# Altium footprint library MODULE.PcbLib: 11 footprints
Each footprint in its own frame and in the unit in brackets; x right, y up, seen from the top. Pads: shape width x height; smd on the part's side, far side on the other; paste and mask are expansions set on the pad; w line width, h text height; cw(c..) or ccw(c..) is an arc to the next point about the centre after c.
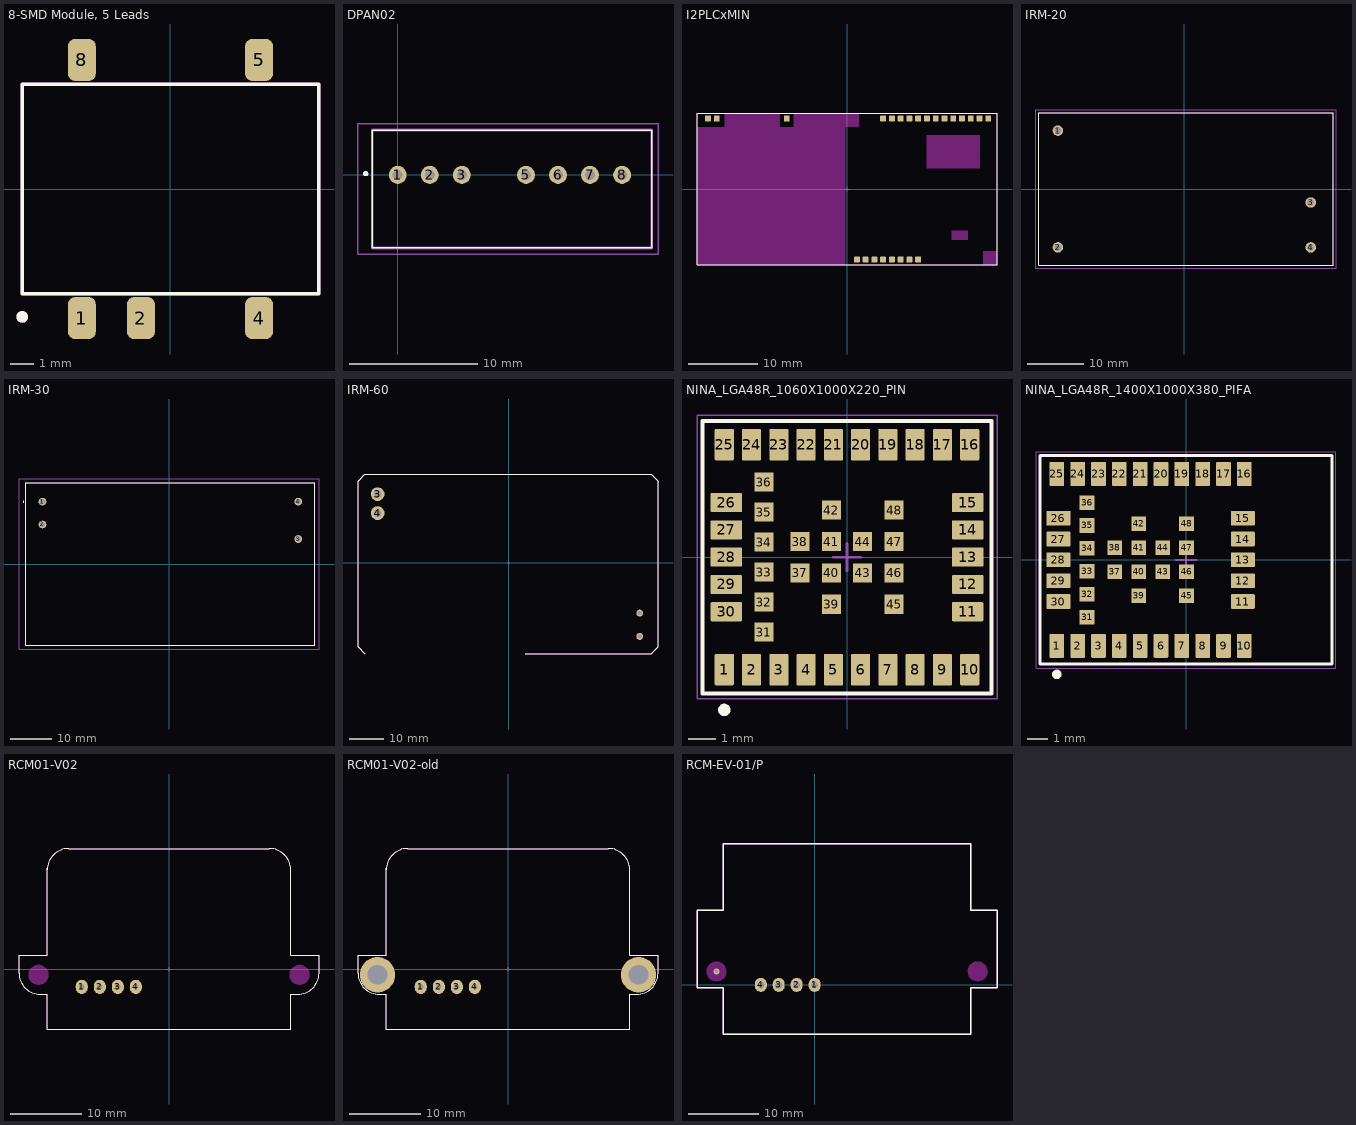
[diagram p0: the footprints below, top view; thin cyan lines are the x and y axes]

## 8-SMD Module, 5 Leads [mm]
pads (5):
  rrect50% 1.2x1.8 smd mask+0.05: 1(-3.81,-5.55) 2(-1.27,-5.55) 4(3.81,-5.55) 5(3.81,5.55) 8(-3.81,5.55)
Top Overlay:
  circle w0.25: c-6.375,-5.5 r0.125
  lines w0.15: -6.375,-4.5 -6.375,4.5 6.375,4.5 6.375,-4.5 -6.375,-4.5
Mechanical 29:
  circle w0.25: c-6.375,-5.5 r0.125
  lines w0.15: -6.375,-4.5 6.375,-4.5 6.375,4.5 -6.375,4.5 -6.375,-4.5
  text "'.Designator'" at -4.841,-0.453 h2
3D body "R1SE-0505.stp": height 7.01, standoff 0, extent -6.375,-5.55 6.375,5.55

## DPAN02 [mm]
pads (7):
  round 1.4 hole 0.78: 1(0,0) 2(2.5,0) 3(5,0) 5(10,0) 6(12.5,0) 7(15,0) 8(17.5,0)
Top Overlay:
  lines w0.1: -2,-5.7 -2,3.5 19.8,3.5 19.8,-5.7 -2,-5.7
  lines w0.2: -2.5,0 cw(c-2.5,0.1) -2.5,0.2 cw(c-2.5,0.1) -2.5,0
Mechanical 13:
  lines w0.2: -2,-5.7 -2,3.5 19.8,3.5 19.8,-5.7 -2,-5.7
Mechanical 15:
  lines w0.1: -3.1,-6.2 -3.1,4 20.3,4 20.3,-6.2 -3.1,-6.2
Mechanical 29:
  lines w0.1: -2,-5.7 -2,3.5 19.8,3.5 19.8,-5.7 -2,-5.7
  lines w0.2: -2.5,0 cw(c-2.5,0.1) -2.5,0.2 cw(c-2.5,0.1) -2.5,0
  text "'.Designator'" at 3.976,-1.73 h2.03
3D body "DPAN02A-15.stp": height 11.1, standoff -5, extent -2,-5.7 19.8,3.5

## I2PLCxMIN [mm]
pads (24):
  rrect25% 0.85x0.85 smd: 1(20.48,10.235) 2(19.21,10.235) 3(17.94,10.235) 4(16.67,10.235) 5(15.4,10.235) 6(14.13,10.235) 7(12.86,10.235) 8(11.59,10.235) 9(10.32,10.235) 10(9.05,10.235) 11(7.78,10.235) 12(6.51,10.235) 13(5.24,10.235) 15(-8.73,10.235) 16(-18.89,10.235) 17(-20.16,10.235) 18(1.43,-10.235) 19(2.7,-10.235) 20(3.97,-10.235) 21(5.24,-10.235) 22(6.51,-10.235) 23(7.78,-10.235) 24(9.05,-10.235) 25(10.32,-10.235)
Top Overlay:
  lines w0.15: -21.75,-11 21.75,-11 21.75,11 -21.75,11 -21.75,-11
Keep-Out Layer:
  rectangle: 19.75,-11 21.75,-9
  rectangle: 15.15,-7.4 17.55,-6
  rectangle: 11.55,3 19.25,7.8
  rectangle: -21.75,-11 -0.25,9
  rectangle: -7.75,9 1.75,11
  rectangle: -17.75,9 -9.75,11
Mechanical 15:
  lines w0.1: -0.3,0 0.3,0 ; 0,-0.3 0,0.3
Mechanical 29:
  lines w0.15: -21.75,-11 -21.75,11 21.75,11 21.75,-11 -21.75,-11
  text "'.Designator'" at -6.143,-0.574 h2.54
3D body: height 6.5, standoff 0, extent -21.75,-11 21.75,11

## IRM-20 [mm]
pads (4):
  round 1.86 hole 1.24: 1(-22.5,10.4) 2(-22.5,-10.4) 3(22.5,-2.4) 4(22.5,-10.4)
Top Overlay:
  lines w0.1: -25.9,-13.6 -25.9,13.6 26.5,13.6 26.5,-13.6 -25.9,-13.6
Mechanical 15:
  lines w0.1: -26.4,-14.1 -26.4,14.1 27,14.1 27,-14.1 -26.4,-14.1
Mechanical 29:
  lines w0.2: -25.9,-13.6 -25.9,13.6 26.5,13.6 26.5,-13.6 -25.9,-13.6
  text "'.Designator'" at -9.682,-0.905 h4
3D body "IRM-20-12.stp": height 24.1, standoff -5, extent -25.9,-13.6 26.5,13.6

## IRM-30 [mm]
pads (4):
  round 1.86 hole 1.24: 1(-30.425,15) 2(-30.425,9.5) 3(31.075,6) 4(31.075,15)
Top Overlay:
  lines w0.1: -34.425,-19.5 35.075,-19.5 35.075,19.5 -34.425,19.5 -34.425,-19.5
  lines w0.2: -34.975,14.9 ccw(c-34.975,15) -34.975,15.1 ccw(c-34.975,15) -34.975,14.9
Mechanical 15:
  lines w0.1: -36.075,-20.5 36.075,-20.5 36.075,20.5 -36.075,20.5 -36.075,-20.5
Mechanical 29:
  lines w0.2: -34.425,-19.5 35.075,-19.5 35.075,19.5 -34.425,19.5 -34.425,-19.5
  text "'.Designator'" at -12.1,-1.132 h5
3D body "IRM-30-12.stp": height 24.1, standoff -5, extent -34.425,-19.5 35.075,19.5

## IRM-60 [mm]
pads (4):
  round 2 hole 1.2 mask+0.05: 1(38,-21.375) 2(38,-14.625)
  round 4 hole 2.2 mask+0.05: 3(-38,19.875) 4(-38,14.375)
Top Overlay:
  lines w0.15: -41.7,-26.375 -43.7,-24.375 -43.7,23.625 -41.7,25.625 41.3,25.625 43.3,23.625 43.3,-24.375 41.3,-26.375 4.775,-26.375
Mechanical 15:
  lines w0.1: -0.3,0 0.3,0 ; 0,-0.3 0,0.3
Mechanical 29:
  lines w0.15: -41.7,-26.375 -43.7,-24.375 -43.7,23.625 -41.7,25.625 41.3,25.625 43.3,23.625 43.3,-24.375 41.3,-26.375 4.775,-26.375
  text "'.Designator'" at -12.1,-1.132 h5
3D body "IRM-45.STEP": height 29.51, standoff -3.49, extent -43.7,-26.375 43.3,25.625

## NINA_LGA48R_1060X1000X220_PIN [mm] "Stand-alone Bluetooth low energy module"
height 2.2
pads (48):
  rrect10% 0.7x1.15 smd paste+0 mask+0.05: 1(-4.5,-4.125) 2(-3.5,-4.125) 3(-2.5,-4.125) 4(-1.5,-4.125) 5(-0.5,-4.125) 6(0.5,-4.125) 7(1.5,-4.125) 8(2.5,-4.125) 9(3.5,-4.125) 10(4.5,-4.125) 16(4.5,4.125) 17(3.5,4.125) 18(2.5,4.125) 19(1.5,4.125) 20(0.5,4.125) 21(-0.5,4.125) 22(-1.5,4.125) 23(-2.5,4.125) 24(-3.5,4.125) 25(-4.5,4.125)
  rrect10% 1.15x0.7 smd paste+0 mask+0.05: 11(4.425,-2) 12(4.425,-1) 13(4.425,0) 14(4.425,1) 15(4.425,2) 26(-4.425,2) 27(-4.425,1) 28(-4.425,0) 29(-4.425,-1) 30(-4.425,-2)
  rect 0.7x0.7 smd paste+0 mask+0.05: 31(-3.05,-2.75) 32(-3.05,-1.65) 33(-3.05,-0.55) 34(-3.05,0.55) 35(-3.05,1.65) 36(-3.05,2.75) 37(-1.725,-0.575) 38(-1.725,0.575) 39(-0.575,-1.725) 40(-0.575,-0.575) 41(-0.575,0.575) 42(-0.575,1.725) 43(0.575,-0.575) 44(0.575,0.575) 45(1.725,-1.725) 46(1.725,-0.575) 47(1.725,0.575) 48(1.725,1.725)
Top Overlay:
  circle w0.254: c-4.5,-5.6 r0.1
  lines w0.15: -5.3,-5 5.3,-5 5.3,5 -5.3,5 -5.3,-5
Mechanical 15:
  lines w0.05: -5.5,-5.2 -5.5,5.2 5.5,5.2 5.5,-5.2 -5.5,-5.2
  lines w0.1: -0.5,0 0,0 0.5,0 ; 0,-0.5 0,0.5
Mechanical 29:
  lines w0.1: -5.3,-5 5.302,-5 5.302,5 -5.3,5 -5.3,-5
  text ".Designator" at -3.378,-0.339 h1.5
3D body "NINA-W131-00B.STEP": height 2.25, standoff 0.04, extent -5.3,-5 5.3,5

## NINA_LGA48R_1400X1000X380_PIFA [mm] "Stand-alone Bluetooth low energy module"
height 3.8
pads (48):
  rrect10% 0.7x1.15 smd paste+0 mask+0.05: 1(-6.2,-4.125) 2(-5.2,-4.125) 3(-4.2,-4.125) 4(-3.2,-4.125) 5(-2.2,-4.125) 6(-1.2,-4.125) 7(-0.2,-4.125) 8(0.8,-4.125) 9(1.8,-4.125) 10(2.8,-4.125) 16(2.8,4.125) 17(1.8,4.125) 18(0.8,4.125) 19(-0.2,4.125) 20(-1.2,4.125) 21(-2.2,4.125) 22(-3.2,4.125) 23(-4.2,4.125) 24(-5.2,4.125) 25(-6.2,4.125)
  rrect10% 1.15x0.7 smd paste+0 mask+0.05: 11(2.725,-2) 12(2.725,-1) 13(2.725,0) 14(2.725,1) 15(2.725,2) 26(-6.125,2) 27(-6.125,1) 28(-6.125,0) 29(-6.125,-1) 30(-6.125,-2)
  rect 0.7x0.7 smd paste+0 mask+0.05: 31(-4.75,-2.75) 32(-4.75,-1.65) 33(-4.75,-0.55) 34(-4.75,0.55) 35(-4.75,1.65) 36(-4.75,2.75) 37(-3.425,-0.575) 38(-3.425,0.575) 39(-2.275,-1.725) 40(-2.275,-0.575) 41(-2.275,0.575) 42(-2.275,1.725) 43(-1.125,-0.575) 44(-1.125,0.575) 45(0.025,-1.725) 46(0.025,-0.575) 47(0.025,0.575) 48(0.025,1.725)
Top Overlay:
  circle w0.254: c-6.2,-5.5 r0.1
  lines w0.15: -7,-5 7,-5 7,5 -7,5 -7,-5
Mechanical 15:
  lines w0.05: -7.2,-5.2 7.2,-5.2 7.2,5.2 -7.2,5.2 -7.2,-5.2
  lines w0.1: -0.5,0 0,0 0.5,0 ; 0,-0.5 0,0.5
Mechanical 29:
  lines w0.1: -7,-5 7,-5 7,5 -7,5 -7,-5
  text ".Designator" at -3.378,-0.339 h1.5
3D body "NINA-W132-00B.STEP": height 3.86, standoff 0.04, extent -7,-5 7,5

## RCM01-V02 [mm]
pads (4):
  oval 1.7x2 hole 0.8 mask+0.05: 1(-12.3,-2.5) 2(-9.76,-2.5) 3(-7.22,-2.5) 4(-4.68,-2.5)
Top Overlay:
  lines w0.15: -21.15,1.95 -21.15,-0.55 ccw(c-18.15,-0.55) -18.15,-3.55 -17.15,-3.55 -17.15,-8.5 0,-8.5 17.15,-8.5 17.15,-3.55 18.15,-3.55 ccw(c18.15,-0.55) 21.15,-0.55 21.15,1.95 ; -21.1,1.95 -17.15,1.95 -17.15,14.25 ; -17.15,14 cw(c-14.15,14) -14.15,17 0,17 14.15,17 cw(c14.15,14) 17.15,14 ; 17.15,14.25 17.15,1.95 21.1,1.95
Keep-Out Layer:
  board cut-out: 18.4,0.6 18.538,0.6 18.808,0.546 19.063,0.441 19.292,0.287 19.487,0.092 19.641,-0.137 19.746,-0.392 19.8,-0.662 19.8,-0.8 19.8,-0.938 19.746,-1.208 19.641,-1.463 19.487,-1.692 19.292,-1.887 19.063,-2.041 18.808,-2.146 18.538,-2.2 18.4,-2.2 18.262,-2.2 17.992,-2.146 17.737,-2.041 17.508,-1.887 17.313,-1.692 17.159,-1.463 17.054,-1.208 17,-0.938 17,-0.8 17,-0.662 17.054,-0.392 17.159,-0.137 17.313,0.092 17.508,0.287 17.737,0.441 17.992,0.546 18.262,0.6
  board cut-out: -18.4,0.6 -18.262,0.6 -17.992,0.546 -17.737,0.441 -17.508,0.287 -17.313,0.092 -17.159,-0.137 -17.054,-0.392 -17,-0.662 -17,-0.8 -17,-0.938 -17.054,-1.208 -17.159,-1.463 -17.313,-1.692 -17.508,-1.887 -17.737,-2.041 -17.992,-2.146 -18.262,-2.2 -18.4,-2.2 -18.538,-2.2 -18.808,-2.146 -19.063,-2.041 -19.292,-1.887 -19.487,-1.692 -19.641,-1.463 -19.746,-1.208 -19.8,-0.938 -19.8,-0.8 -19.8,-0.662 -19.746,-0.392 -19.641,-0.137 -19.487,0.092 -19.292,0.287 -19.063,0.441 -18.808,0.546 -18.538,0.6
Mechanical 15:
  lines w0.1: -0.3,0 0.3,0 ; 0,-0.3 0,0.3
Mechanical 29:
  lines w0.15: -21.15,1.95 -21.15,-0.55 ccw(c-18.15,-0.55) -18.15,-3.55 -17.15,-3.55 -17.15,-8.5 0,-8.5 17.15,-8.5 17.15,-3.55 18.15,-3.55 ccw(c18.15,-0.55) 21.15,-0.55 21.15,1.95 ; -21.1,1.95 -17.15,1.95 -17.15,14.25 ; -17.15,14 cw(c-14.15,14) -14.15,17 0,17 14.15,17 cw(c14.15,14) 17.15,14 ; 17.15,14.25 17.15,1.95 21.1,1.95
  text "'.Designator'" at -6.143,-0.574 h2.54
3D body "RCM01-02.step": height 44.33, standoff -4.63, extent -20.597,-11.033 20.597,17.433

## RCM01-V02-old [mm]
pads (6):
  oval 1.7x2 hole 0.8 mask+0.05: 1(-12.3,-2.5) 2(-9.76,-2.5) 3(-7.22,-2.5) 4(-4.68,-2.5)
  round 5 hole 2.8 mask+0.05: ""(-18.4,-0.8) ""(18.4,-0.8)
Top Overlay:
  lines w0.15: -21.15,1.95 -21.15,-0.55 ccw(c-18.15,-0.55) -18.15,-3.55 -17.15,-3.55 -17.15,-8.5 0,-8.5 17.15,-8.5 17.15,-3.55 18.15,-3.55 ccw(c18.15,-0.55) 21.15,-0.55 21.15,1.95 ; -21.1,1.95 -17.15,1.95 -17.15,14.25 ; -17.15,14 cw(c-14.15,14) -14.15,17 0,17 14.15,17 cw(c14.15,14) 17.15,14 ; 17.15,14.25 17.15,1.95 21.1,1.95
Mechanical 15:
  lines w0.1: -0.3,0 0.3,0 ; 0,-0.3 0,0.3
Mechanical 29:
  lines w0.15: -21.15,1.95 -21.15,-0.55 ccw(c-18.15,-0.55) -18.15,-3.55 -17.15,-3.55 -17.15,-8.5 0,-8.5 17.15,-8.5 17.15,-3.55 18.15,-3.55 ccw(c18.15,-0.55) 21.15,-0.55 21.15,1.95 ; -21.1,1.95 -17.15,1.95 -17.15,14.25 ; -17.15,14 cw(c-14.15,14) -14.15,17 0,17 14.15,17 cw(c14.15,14) 17.15,14 ; 17.15,14.25 17.15,1.95 21.1,1.95
  text "'.Designator'" at -6.143,-0.574 h2.54
3D body "RCM01-02.step": height 44.33, standoff -4.63, extent -20.597,-11.033 20.597,17.433

## RCM-EV-01/P [mm]
pads (4):
  oval 1.7x2 hole 1: 1(0,0) 2(-2.54,0) 3(-5.08,0) 4(-7.62,0)
via -13.9,1.9 diameter 0.8 hole 0.5
Top Overlay:
  lines w0.2: -16.66,-0.4 -16.66,10.6 -12.91,10.6 -12.91,20 22.09,20 22.09,10.6 25.84,10.6 25.84,-0.4 22.09,-0.4 22.09,-7 -12.91,-7 -12.91,-0.4 -16.66,-0.4
Keep-Out Layer:
  board cut-out: -13.9,3.3 -13.763,3.3 -13.493,3.245 -13.24,3.139 -13.012,2.985 -12.818,2.79 -12.666,2.561 -12.562,2.307 -12.509,2.037 -12.51,1.9 -12.5,1.9 -12.501,1.762 -12.555,1.49 -12.662,1.235 -12.817,1.006 -13.013,0.811 -13.244,0.658 -13.5,0.553 -13.772,0.5 -13.91,0.5 -13.9,0.5 -14.038,0.5 -14.31,0.553 -14.566,0.658 -14.797,0.811 -14.993,1.006 -15.148,1.235 -15.254,1.49 -15.309,1.762 -15.31,1.9 -15.3,1.9 -15.3,2.037 -15.248,2.307 -15.144,2.561 -14.992,2.79 -14.798,2.985 -14.57,3.139 -14.317,3.245 -14.047,3.3 -13.91,3.3
  board cut-out: 23.1,3.3 23.237,3.3 23.507,3.245 23.76,3.139 23.988,2.985 24.182,2.79 24.334,2.561 24.438,2.307 24.491,2.037 24.49,1.9 24.5,1.9 24.499,1.762 24.445,1.49 24.338,1.235 24.183,1.006 23.987,0.811 23.756,0.658 23.5,0.553 23.228,0.5 23.09,0.5 23.1,0.5 22.962,0.5 22.69,0.553 22.434,0.658 22.203,0.811 22.007,1.006 21.852,1.235 21.746,1.49 21.691,1.762 21.69,1.9 21.7,1.9 21.7,2.037 21.752,2.307 21.856,2.561 22.008,2.79 22.202,2.985 22.43,3.139 22.683,3.245 22.953,3.3 23.09,3.3
Mechanical 29:
  lines w0.2: -16.66,-0.4 -16.66,10.6 -12.91,10.6 -12.91,20 22.09,20 22.09,10.6 25.84,10.6 25.84,-0.4 22.09,-0.4 22.09,-7 -12.91,-7 -12.91,-0.4 -16.66,-0.4
  text "'.Designator'" at -2.668,5.821 h3
3D body "Broyce_RCM-EV-01_P.step": height 46.01, standoff -5.11, extent -16.797,-7.079 25.685,19.971